# Altium footprint library RGB_LED.PcbLib: 1 footprints
Each footprint in its own frame and in the unit in brackets; x right, y up, seen from the top. Pads: shape width x height; smd on the part's side, far side on the other; paste and mask are expansions set on the pad; w line width, h text height; cw(c..) or ccw(c..) is an arc to the next point about the centre after c.
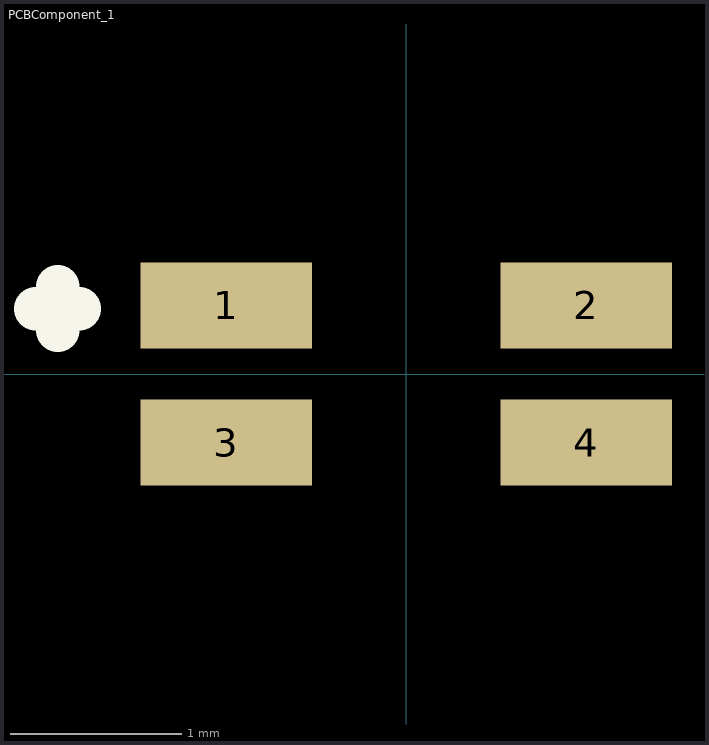
[diagram p0: the footprint, top view; thin cyan lines are the x and y axes]

## PCBComponent_1 [mm]
pads (4):
  rect 1x0.5 smd: 1(-1.05,0.4) 2(1.05,0.4) 3(-1.05,-0.4) 4(1.05,-0.4)
Top Overlay:
  lines w0.254: -2.159,0.381 -1.905,0.381 ; -2.032,0.254 -2.032,0.508